# Altium schematic symbol library Item_sch.SchLib: 82 symbols
Pins are listed as number, name and electrical type; pins without a type are passive.

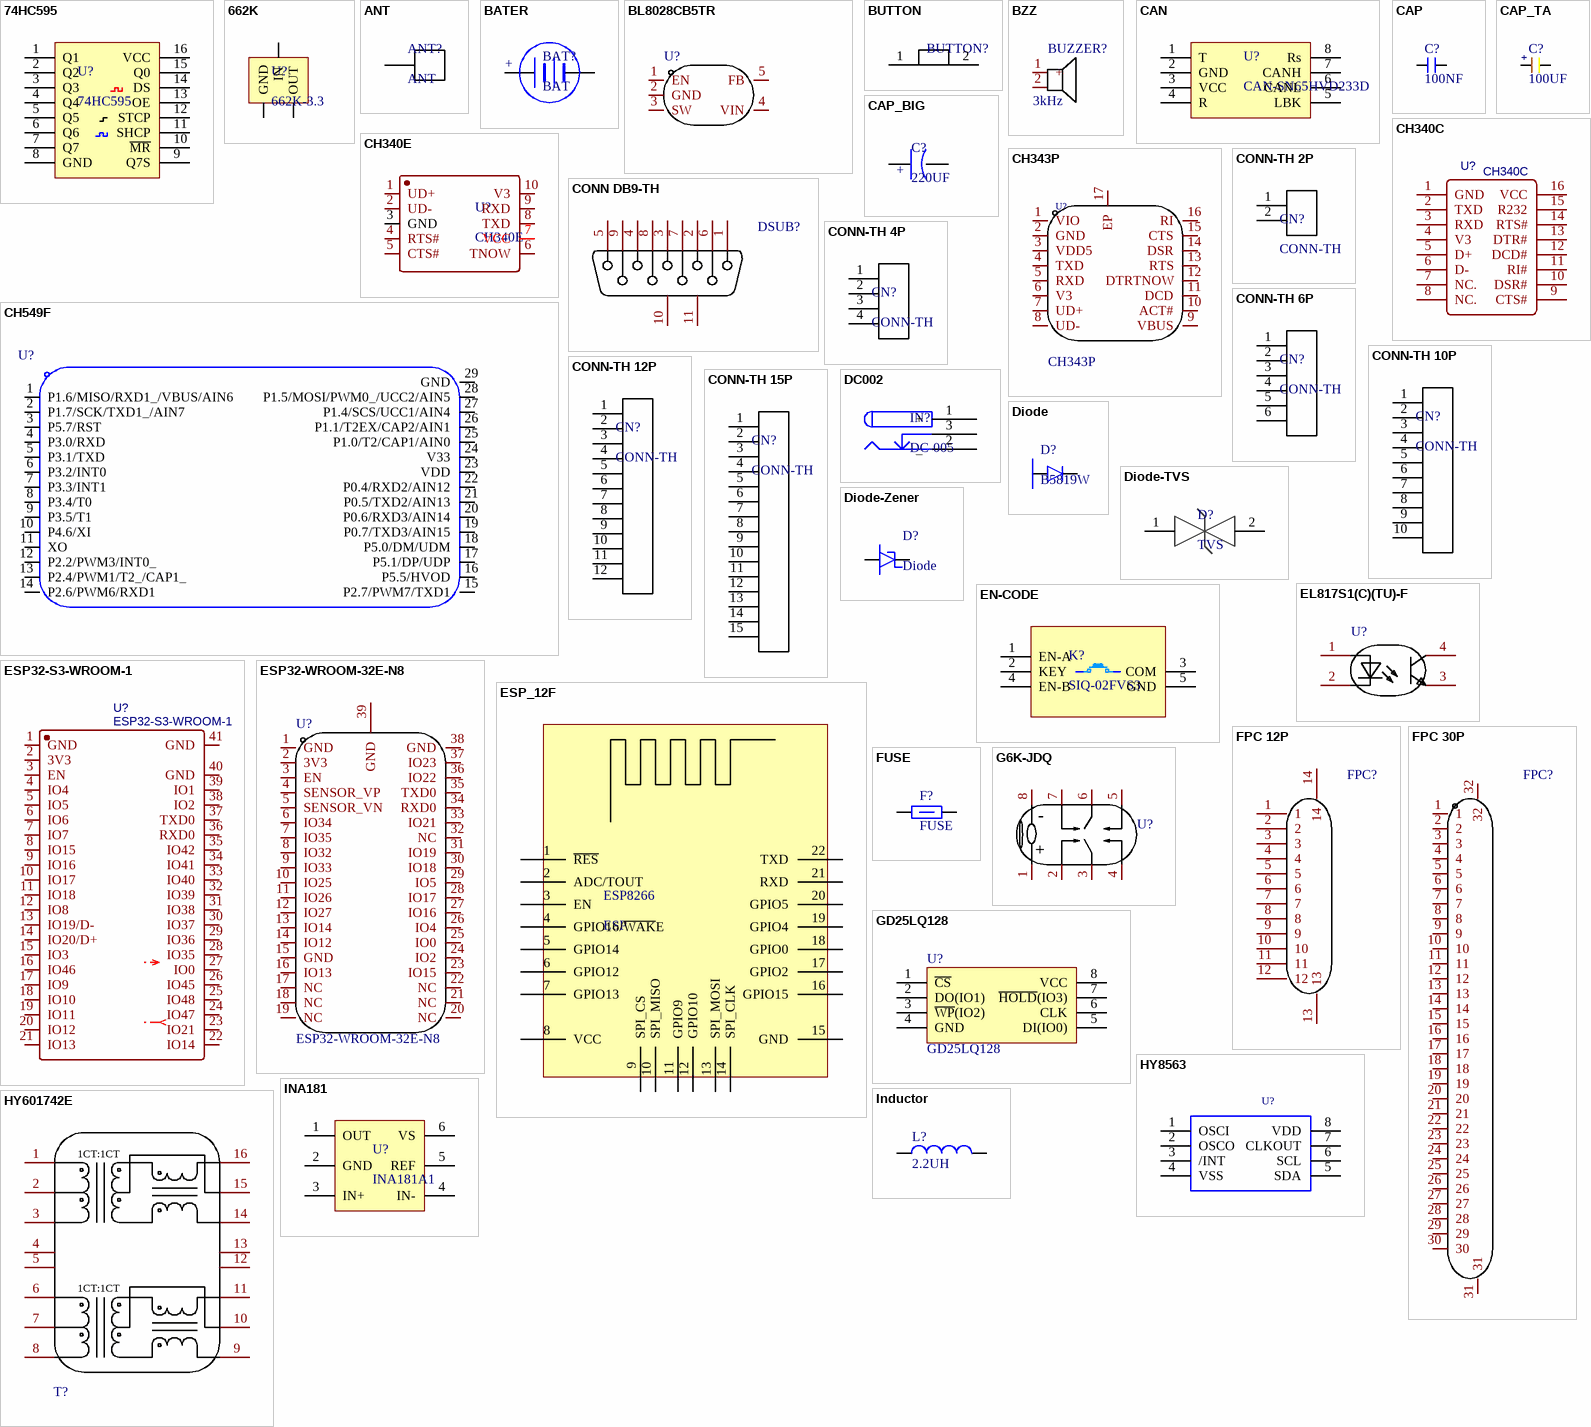
[diagram p0: symbols 74HC595 to Inductor]

## 74HC595
designator U?
IC
footprint SOIC_16
pins: 1 Q1, 2 Q2, 3 Q3, 4 Q4, 5 Q5, 6 Q6, 7 Q7, 8 GND, 9 Q7S, 10 ~{M}~{R}, 11 SHCP, 12 STCP, 13 OE, 14 DS, 15 Q0, 16 VCC

## 662K
designator U?, comment 662K-3.3
DC-DC
footprint SOT23_3
pins: 1 GND, 2 OUT, 3 IN

## ANT
designator ANT?
footprint ANT_MMCX (异型4.5X7.5MM)
pins: 1

## BATER
designator BAT?, comment BAT
footprint CR_1220
footprint BAT 18650*1
footprint CR_2032_DIP
pins: 1 +, 2 -

## BL8028CB5TR
designator U?
DC-DC 5.5V 1.5A; Manufacturer: BL(上海贝岭); Add into BOM: yes; Function: 降压型; Switch tube (built-in/external): 内置; Symbol: BL8028CB5TR; Device: BL8028CB5TR; LCSC Part Name: BL8028CB5TR; Supplier Part: C266177; Manufacturer Part: BL8028CB5TR; Supplier Footprint: SOT-23-5; JLCPCB Part Class: 扩展库; Datasheet: https://atta.szlcsc.com/upload/public/pdf/source/20210914/BE0444445A95A28A94BA1FA8E615D320.pdf; Supplier: LCSC; Convert to PCB: yes; Input Voltage: -; Output Current (Max): -; Switching Frequency: -; Synchronous Rectification: -; Number of Outputs: -; Topology: -
footprint SOT23_5
pins: 1 EN, 2 GND, 3 SW, 4 VIN, 5 FB

## BUTTON
designator BUTTON?  (value not drawn)
footprint KEY_SMD-4P (3*4*2.5MM)
footprint KEY-D (4*4mm)
footprint KEY-A
footprint KEY-B
footprint KEY2X12-SMD
footprint KEY-DIP4W
pins: 1, 2

## BZZ
designator BUZZER?  value 3kHz  (hidden comment: BZZ)
Manufacturer: 华能; Symbol: HNB09A05; Add into BOM: yes; Oscillator Circuit: 有源(内含驱动线路); Technology Type: 电磁式; Operating Voltage: 4V~8V; Sound Pressure Level (SPL): 85dB; Device: HNB09A05; LCSC Part Name: HNB09A05; Supplier Part: C96493; Manufacturer Part: HNB09A05; Supplier Footprint: 插件,D=9mm; JLCPCB Part Class: 扩展库; Datasheet: https://atta.szlcsc.com/upload/public/pdf/source/20170522/1495448327549.pdf; Supplier: LCSC; Convert to PCB: yes; Diameter (φD): 9mm; Height: 5.7mm
footprint BEE-FMQ5mm
footprint BEE-FMQ7.6mm
pins: 1 +, 2

## CAN
designator U?, comment CAN-SN65HVD233D
CAN
footprint SOIC_8 (58mm)
pins: 1 T, 2 GND, 3 VCC, 4 R, 5 LBK, 6 CANL, 7 CANH, 8 Rs

## CAP
designator C?, comment 100NF
CAP  12~50V
footprint CAP_0603
footprint CAP_0805
footprint CAP_1206
footprint CAP_0402
pins: 1 0, 2 0

## CAP_BIG
designator C?, comment 220UF
CAP 12V ~ 50V   电解电容
footprint CAPE_D (6.3X6.6X5.4)
footprint CAPE_B (4X4.3X5.4)
footprint CAPE_E (8X8.3X6.2)
footprint CAP_PR_2.5_8 (8X12)
footprint CAP_PR_2.5_6.3_RA (6.3X11)
pins: 1 0, 2 0
text: +

## CAP_TA
designator C?, comment 100UF
CAP  6~12V  钽电容
footprint CAP_3528_B
footprint CAP_6032_C
footprint CAP_3216_A
footprint CAP_2012_R
pins: 1 0, 2 0
text: +

## CH340C
designator U?
IC; BOM_Manufacturer: WCH; BOM_Paste Type: recommend; BOM_Supplier: LCSC; BOM_Manufacturer Part: CH340C; BOM_Supplier Part: C84681; spicePre: U; spiceSymbolName: CH340C
footprint SOIC_16
footprint SOP16 (SOP, 16-Leads, Body 9.90x3.90mm, Pitch 1.27mm, IPC Medium Density)
pins: 1 GND, 2 TXD, 3 RXD, 4 V3, 5 D+, 6 D-, 7 NC., 8 NC., 9 CTS#, 10 DSR#, 11 RI#, 12 DCD#, 13 DTR#, 14 RTS#, 15 R232, 16 VCC

## CH340E
designator U?
IC CH340E 10pin
footprint MSOP_10
pins: 1 UD+, 2 UD-, 3 GND, 4 RTS#, 5 CTS#, 6 TNOW, 7 VCC, 8 TXD, 9 RXD, 10 V3

## CH343P
designator U?
IC; Manufacturer: WCH(南京沁恒); Add into BOM: yes; Symbol: CH343P; Supplier: LCSC; Supplier Part: C2846043; Manufacturer Part: CH343P; JLCPCB Part Class: 扩展库; LCSC Part Name: CH343P; Supplier Footprint: QFN-16; Datasheet: 2021-07-07/108913S/1444e436f0ee4499a1b0f1a967f741b9/CH343DS1.PDF; Convert to PCB: yes; Type: -; Protocol: -; Number of Drivers/Receivers: -; Data Rate: -; Supply Voltage: -; Device: CH343P
footprint TQFN-16
pins: 1 VIO, 2 GND, 3 VDD5, 4 TXD, 5 RXD, 6 V3, 7 UD+, 8 UD-, 9 VBUS, 10 ACT#, 11 DCD, 12 DTRTNOW, 13 RTS, 14 DSR, 15 CTS, 16 RI, 17 EP

## CH549F
designator U?
MCU; Manufacturer: WCH(南京沁恒); Add into BOM: yes; CPU Core: 51系列; Maximum Frequency: 48MHz; Supply Voltage Range: 3.3V~5V; Internal Oscillator: 有; External Clock Frequency Rang: 6MHz~25MHz; Program FLASH Size: 64KB; RAM Size: 2.25KB; EEPROM/Data FLASH Size: 1KB; ADC (Units/Channels/bits): 1@x16ch/12bit; (E)PWM (Units/Channels/bits): 1@x8ch/8bit; 16Bit Timer Number: 3; U(S)ART Number: 4; (Q)SPI Number: 1; USB (H/D/OTG): 全速USB Host/Device; Peripherals / Functions / Protocol Stacks: 低电压检测；看门狗；CCP捕获/比较；触控按键；片载温度传感器；CRC校验；DMA; Symbol: CH549F; Device: CH549F; LCSC Part Name: CH549F; Supplier Part: C367229; Manufacturer Part: CH549F; Supplier Footprint: QFN-28; JLCPCB Part Class: Extended Part; Datasheet: https://atta.szlcsc.com/upload/public/pdf/source/20200819/C367229_D216FC0E0489DFB21C5778C34F7DC8A5.pdf; Supplier: LCSC; Convert to PCB: yes; GPIO Ports Number: -; DAC (Units/Channels/bits): -; 8Bit Timer Number: -; 32Bit Timer Number: -; CMP Number: -; I2C Number: -; I2S Number: -; CAN Number: -; Operating Temperature Range: -40~+70
footprint QFN28_4X4_L
pins: 1 P1.6/MISO/RXD1_/VBUS/AIN6, 2 P1.7/SCK/TXD1_/AIN7, 3 P5.7/RST, 4 P3.0/RXD, 5 P3.1/TXD, 6 P3.2/INT0, 7 P3.3/INT1, 8 P3.4/T0, 9 P3.5/T1, 10 P4.6/XI, 11 XO, 12 P2.2/PWM3/INT0_, 13 P2.4/PWM1/T2_/CAP1_, 14 P2.6/PWM6/RXD1, 15 P2.7/PWM7/TXD1, 16 P5.5/HVOD, 17 P5.1/DP/UDP, 18 P5.0/DM/UDM, 19 P0.7/TXD3/AIN15, 20 P0.6/RXD3/AIN14, 21 P0.5/TXD2/AIN13, 22 P0.4/RXD2/AIN12, 23 VDD, 24 V33, 25 P1.0/T2/CAP1/AIN0, 26 P1.1/T2EX/CAP2/AIN1, 27 P1.4/SCS/UCC1/AIN4, 28 P1.5/MOSI/PWM0_/UCC2/AIN5, 29 GND

## CONN DB9-TH
designator DSUB?, comment ID09S33E4GV00LF  (value not drawn)
Interface; Manufacturer: Amphenol; Add into BOM: yes; Connector Type: D-Sub; Current Rating (Max): 5A; Symbol: ID09S33E4GV00LF; Device: ID09S33E4GV00LF; Supplier: LCSC; Supplier Part: C185657; Manufacturer Part: ID09S33E4GV00LF; JLCPCB Part Class: 扩展库; LCSC Part Name: D-Sub P数:9P; Supplier Footprint: 弯插; Datasheet: https://atta.szlcsc.com/upload/public/pdf/source/20180524/C185657_A3EAFC28C6ED417B8B89632C5DE17622.pdf; Convert to PCB: yes; Gender: -; Number of Pins: 9P; Mounting Style: 弯插; Number of Rows: 2; Contact Plating: 金; Operating Temperature Range: -55℃~+125℃
footprint DB9/F
pins: 1, 2, 3, 4, 5, 6, 7, 8, 9, 10 MH1, 11 MH2

## CONN-TH 2P
designator CN?, comment CONN-TH
2PIN
footprint HDR2.0-LI-2P (直插，脚距：2.0mm)
footprint Header 2.54X2
footprint PH2.0-LI-2P (长：5.9mm，宽：4.7mm，高：6mm)
footprint XH2.54-WI-2P (接插件，2P)
pins: 1, 2

## CONN-TH 4P
designator CN?, comment CONN-TH
4PIN
footprint Header 2.54X4
footprint XH2.54-WI-4P (接插件，4P)
footprint XH2.54-WS-4P (长：15mm，宽：8mm，高：6.1mm)
footprint CONN XH2.54-4PIN (2.54MM)
pins: 1, 2, 3, 4

## CONN-TH 6P
designator CN?, comment CONN-TH
6PIN
footprint HDR2.0-LI-6P (直插，脚距：2.0mm)
footprint Header 2.54X6
footprint PH2.0-LI-6P (长：13.9mm，宽：4.7mm，高：6mm)
footprint XH2.54-WS-6P (长：20mm，宽：8mm，高：6.1mm)
footprint XH2.54-WI-6P (接插件，6P)
footprint JLINK_6P (2,00MM)
footprint XH_2.54_6P
footprint CONN TH_6P-P3.81 (P3.81mm)
pins: 1, 2, 3, 4, 5, 6

## CONN-TH 10P
designator CN?, comment CONN-TH
10PIN
footprint HDR2.0-LI-10P (直插，脚距：2.0mm)
footprint Header 2.54X10
footprint XH_2.54_10P
pins: 1, 2, 3, 4, 5, 6, 7, 8, 9, 10

## CONN-TH 12P
designator CN?, comment CONN-TH
12PIN
footprint PH2.0-LI-12P (长：23.9mm，宽：4.7mm，高：6mm)
footprint CONN TH_12P-P3.50_DB2ERC (3.50MM)
footprint CONN TH_12P-P2.50_A2001WV-12P
footprint FPC_0.5_12P
footprint FPC_0.5MM_12PIN_LT (0.5MM)
footprint FPC-12PIN-1MM-CN
pins: 1, 2, 3, 4, 5, 6, 7, 8, 9, 10, 11, 12

## CONN-TH 15P
designator CN?, comment CONN-TH
15PIN
footprint CONN SMD 15PIN (1.25MM)
pins: 1, 2, 3, 4, 5, 6, 7, 8, 9, 10, 11, 12, 13, 14, 15

## DC002
designator IN?, comment DC-005
Interface
footprint DC-005
pins: 1 +, 2 _, 3 _

## Diode
designator D?, comment B5819W
Diode_肖特基/二极管
footprint DIODE-SMB
footprint DIO SOD123
footprint DIO SOD323
footprint Diode_SMA (SMA)
footprint Diode_SMC (DO-214AB(2114))
pins: 1 P, 2 N

## Diode-TVS
designator D?, comment TVS
diode
footprint DIODE-SMB
footprint DIO SOD323
pins: 1, 2

## Diode-Zener
designator D?, comment Diode
Diode    /稳压
footprint DIODE-SMB
footprint DIODE_1206
footprint DIO SOD123
pins: 1 P, 2 N

## EL817S1(C)(TU)-F
designator U?  (value not drawn)
光耦; Manufacturer: EVERLIGHT(亿光); Add into BOM: yes; Input voltage type: DC; Output Type: 光电三极管; Forward Voltage: 1.2V; Output Current: 50mA; Isolation Voltage(rms): 5kV; Reverse Voltage: 6V; Receiving End Voltage: 35V; Number of Outputs: 1; Collector-Emitter Saturation Voltage (Vce(sat)@Ic,IF): 100mV@1mA,20mA; Rise time: 18us@2mA,100Ω; Symbol: EL817S1(C)(TU)-F; Device: EL817S1(C)(TU)-F; Supplier: LCSC; Manufacturer Part: EL817S1(C)(TU)-F; Supplier Part: C106900; JLCPCB Part Class: 基础库; LCSC Part Name: DC输入 隔离电压(rms):5000V; Supplier Footprint: SMD-4P; Datasheet: https://atta.szlcsc.com/upload/public/pdf/source/20181026/C323798_FBCE14484708FE0807B9A090D624C4F0.pdf; Convert to PCB: yes; Fall time: 18us@2mA,100Ω; Operating Temperature: -55℃~+110℃
footprint SOP4S
footprint SOP4 (AQY211G2S)
footprint EL-817
pins: 1 AN, 2 CAT, 3 EM, 4 COL

## EN-CODE
designator K?, comment SIQ-02FVS3
KEY
footprint Rotary Encoder
footprint EC-11
pins: 1 EN-A, 2 KEY, 3 COM, 4 EN-B, 5 GND

## ESP32-S3-WROOM-1
designator U?
IC; BOM_Manufacturer: Espressif Systems; BOM_Manufacturer Part: ESP32-SOLO-1; Contributor: LCSC; BOM_Supplier: LCSC; BOM_Supplier Part: C473005; BOM_JLCPCB Part Class: Extended Part; spicePre: U; spiceSymbolName: ESP32-S3-WROOM-1
footprint ESP32-S3-WROOM-1
pins: 1 GND, 2 3V3, 3 EN, 4 IO4, 5 IO5, 6 IO6, 7 IO7, 8 IO15, 9 IO16, 10 IO17, 11 IO18, 12 IO8, 13 IO19/D-, 14 IO20/D+, 15 IO3, 16 IO46, 17 IO9, 18 IO10, 19 IO11, 20 IO12, 21 IO13, 22 IO14, 23 IO21, 24 IO47, 25 IO48, 26 IO45, 27 IO0, 28 IO35, 29 IO36, 30 IO37, 31 IO38, 32 IO39, 33 IO40, 34 IO41, 35 IO42, 36 RXD0, 37 TXD0, 38 IO2, 39 IO1, 40 GND, 41 GND

## ESP32-WROOM-32E-N8
designator U?
IC; Manufacturer: ESPRESSIF(乐鑫); Symbol: ESP32-WROOM-32E(8MB); Add into BOM: yes; LCSC Part Name: 通用型Wi-Fi+BT+BLE的MCU模组 PCB板载天线模组; Supplier Part: C701342; Manufacturer Part: ESP32-WROOM-32E-N8; Supplier Footprint: SMD,18x25.5mm; JLCPCB Part Class: 扩展库; Datasheet: https://atta.szlcsc.com/upload/public/pdf/source/20200730/C701341_95E089979D39CD8D2471FDC7C7AF29A1.pdf; Supplier: LCSC; Convert to PCB: yes; Device: ESP32-WROOM-32E-N8
footprint ESP32-WROOM-32E (4MB)
footprint ESP32-WROVER-IB (18*31.4*3.3)
footprint ESP32-WROVER-IB - compatible (18*31.4*3.3)
pins: 1 GND, 2 3V3, 3 EN, 4 SENSOR_VP, 5 SENSOR_VN, 6 IO34, 7 IO35, 8 IO32, 9 IO33, 10 IO25, 11 IO26, 12 IO27, 13 IO14, 14 IO12, 15 GND, 16 IO13, 17 NC, 18 NC, 19 NC, 20 NC, 21 NC, 22 NC, 23 IO15, 24 IO2, 25 IO0, 26 IO4, 27 IO16, 28 IO17, 29 IO5, 30 IO18, 31 IO19, 32 NC, 33 IO21, 34 RXD0, 35 TXD0, 36 IO22, 37 IO23, 38 GND, 39 GND

## ESP_12F
designator ESP8266, comment ESP
IC
footprint ESP-12
pins: 1 ~{RES}, 2 ADC/TOUT, 3 EN, 4 GPIO16/~{WAK}E, 5 GPIO14, 6 GPIO12, 7 GPIO13, 8 VCC, 9 SPI_CS, 10 SPI_MISO, 11 GPIO9, 12 GPIO10, 13 SPI_MOSI, 14 SPI_CLK, 15 GND, 16 GPIO15, 17 GPIO2, 18 GPIO0, 19 GPIO4, 20 GPIO5, 21 RXD, 22 TXD

## FPC 12P
designator FPC?, comment AFA01-S12FCA-00  (value not drawn)
FPC 12Pin; Manufacturer: JS(钜硕电子); Add into BOM: yes; Locking Feature: 翻盖式; Number of Contacts: 12P; Pitch: 1mm; FFC, FCB Thickness: 0.3mm; Symbol: AFA01-S12FCA-00; Device: AFA01-S12FCA-00; Supplier: LCSC; Supplier Part: C262757; Manufacturer Part: AFA01-S12FCA-00; LCSC Part Name: 间距:1mm P数:12P 翻盖式 下接; Supplier Footprint: SMD,P=1mm,卧贴; Datasheet: https://atta.szlcsc.com/upload/public/pdf/source/20180820/C262762_EBECD0847A529CA64FD00527F6604CA9.pdf; Convert to PCB: yes; Contact Type: 下接; Mounting Type: 卧贴; Height Above Board: 2mm
footprint FPC_0.5MM_12PIN_LT (0.5MM)
footprint FPC-12PIN-1MM-CN
pins: 1, 2, 3, 4, 5, 6, 7, 8, 9, 10, 11, 12, 13, 14

## FPC 30P
designator FPC?, comment FPC-30PH20  (value not drawn)
FPC 30Pin; Manufacturer: XUNPU(讯普); Symbol: FPC-05F-30PH20; Add into BOM: yes; Locking Feature: 翻盖式; Number of Contacts: 30P; Pitch: 0.5mm; FFC, FCB Thickness: 0.3mm; Device: FPC-05F-30PH20; Supplier: LCSC; Supplier Part: C2856808; Manufacturer Part: FPC-05F-30PH20; LCSC Part Name: 间距:0.5mm P数:30P 翻盖式 下接; Supplier Footprint: SMD,P=0.5mm,卧贴; Datasheet: https://atta.szlcsc.com/upload/public/pdf/source/20210922/C2856808_4E6DDE2793CFD9EF09B771A8BD3338A4.pdf; Convert to PCB: yes; Contact Type: 下接; Mounting Type: 卧贴; Height Above Board: 2mm; Operating Temperature Range: -25℃~+85℃
footprint FPC-SMD_30P-P0.50
pins: 1, 2, 3, 4, 5, 6, 7, 8, 9, 10, 11, 12, 13, 14, 15, 16, 17, 18, 19, 20, 21, 22, 23, 24, 25, 26, 27, 28, 29, 30, 31, 32

## FUSE
designator F?
footprint FUSE_5X20
footprint FUSE_1206
footprint FUSE_1812
footprint Fuse_0805
footprint Fuse_0603
footprint FU 0805 (贴片保险丝)
pins: 1, 2

## G6K-JDQ
designator U?, comment G6K-2F-Y-5V_C2982926  (value not drawn)
JDQ 继电器; Manufacturer: OMRON(欧姆龙); Add into BOM: yes; Symbol: G6K-2F-Y-5V_C2982926; Device: G6K-2F-Y-5V_C2982926; Supplier: LCSC; Supplier Part: C2982926; Manufacturer Part: G6K-2F-Y-5V; JLCPCB Part Class: 扩展库; LCSC Part Name: G6K-2F-Y-5V; Supplier Footprint: SMD,6.5x10mm; Datasheet: https://atta.szlcsc.com/upload/public/pdf/source/20211014/7BF675B8400467E84F4521D7CBDF46F1.pdf; Convert to PCB: yes
footprint RELAY-SMD_G6K-2F-Y
pins: 1, 2, 3, 4, 5, 6, 7, 8
text: -; +

## GD25LQ128
designator U?
WSON-8
footprint WSON8
pins: 1 ~{CS}, 2 DO(IO1), 3 ~{WP}(IO2), 4 GND, 5 DI(IO0), 6 CLK, 7 ~{HOLD}(IO3), 8 VCC

## HY8563
designator U?  (value not drawn)
IC / RTC 时钟; Part_Number: C110202560001; Part_Name: RTC芯片; Manufacture: NXP; Part_Field_Name_1: PCB Footprint; Part_Field_Name_10: Part Field 10; Part_Field_Name_11: Part Field 11; PCB DECAL: PCF85063ATT-TSSOP8; ERP_Number: 1010100117; DSC1: RTC,I2C, VCC=1.0-5.5V; DSC2: SOIC-8_150mil，1.27mm Pitch; DSC3: -40℃~+85℃; Part_Field_Name_2: ERP Number; Part_Field_Name_3: Part Number; Part_Field_Name_4: Part Name; Part_Field_Name_5: DSC1; Part_Field_Name_6: DSC2; Part_Field_Name_7: DSC3; Part_Field_Name_8: Manufacture; Part_Field_Name_9: Price; Part_Field_Name_12: Part Field 12; Part_Field_Name_13: Part Field 13; Part_Field_Name_14: Part Field 14; Part_Field_Name_15: Part Field 15; Part_Field_Name_16: Part Field 16
footprint SOP-8PIN
footprint TSSOP_8 (0.65)
footprint SSOP_8PIN
pins: 1 OSCI, 2 OSCO, 3 /INT, 4 VSS, 5 SDA, 6 SCL, 7 CLKOUT, 8 VDD

## HY601742E
designator T?  (value not drawn)
Inductor; Manufacturer: HANRUN(汉仁); Add into BOM: yes; Number of Loop: 2; Turns Ratio: 1:1; Symbol: HY601742E; Device: HY601742E; LCSC Part Name: HY601742E; Supplier Part: C91752; Manufacturer Part: HY601742E; Supplier Footprint: SMD; Datasheet: https://atta.szlcsc.com/upload/public/pdf/source/20201124/C91752_171922D88CE3141E2445AF1D58250A51.pdf; Supplier: LCSC; Convert to PCB: yes
footprint XFMR-SMD_HY601745E
pins: 1, 2, 3, 4, 5, 6, 7, 8, 9, 10, 11, 12, 13, 14, 15, 16
text: 1CT:1CT

## INA181
designator U?, comment INA181A1
IC / INA181 电流放大器 / 20v/v / 200v/v
footprint SOT-23-6
pins: 1 OUT, 2 GND, 3 IN+, 4 IN-, 5 REF, 6 VS

## Inductor
designator L?, comment 2.2UH
Inductor; Code_IEC: 1005; Published: 8-Jun-2000; LatestRevisionDate: 29-May-2009; LatestRevisionNote: IPC-7351 Footprint Added.; PackageReference: 0402-A; Publisher: Altium Limited; PackageDescription: Chip Inductor; Code_JEITA: 0402
footprint Inductor_TC5026
footprint Inductor_CDRH127R
footprint Inductor_CDRH74R
footprint Inductor_1206
footprint Inductor_1210
footprint Inductor_0805
footprint Inductor_0603
footprint Inductance_nr
footprint INDUCTANCE_0630
pins: 1, 2

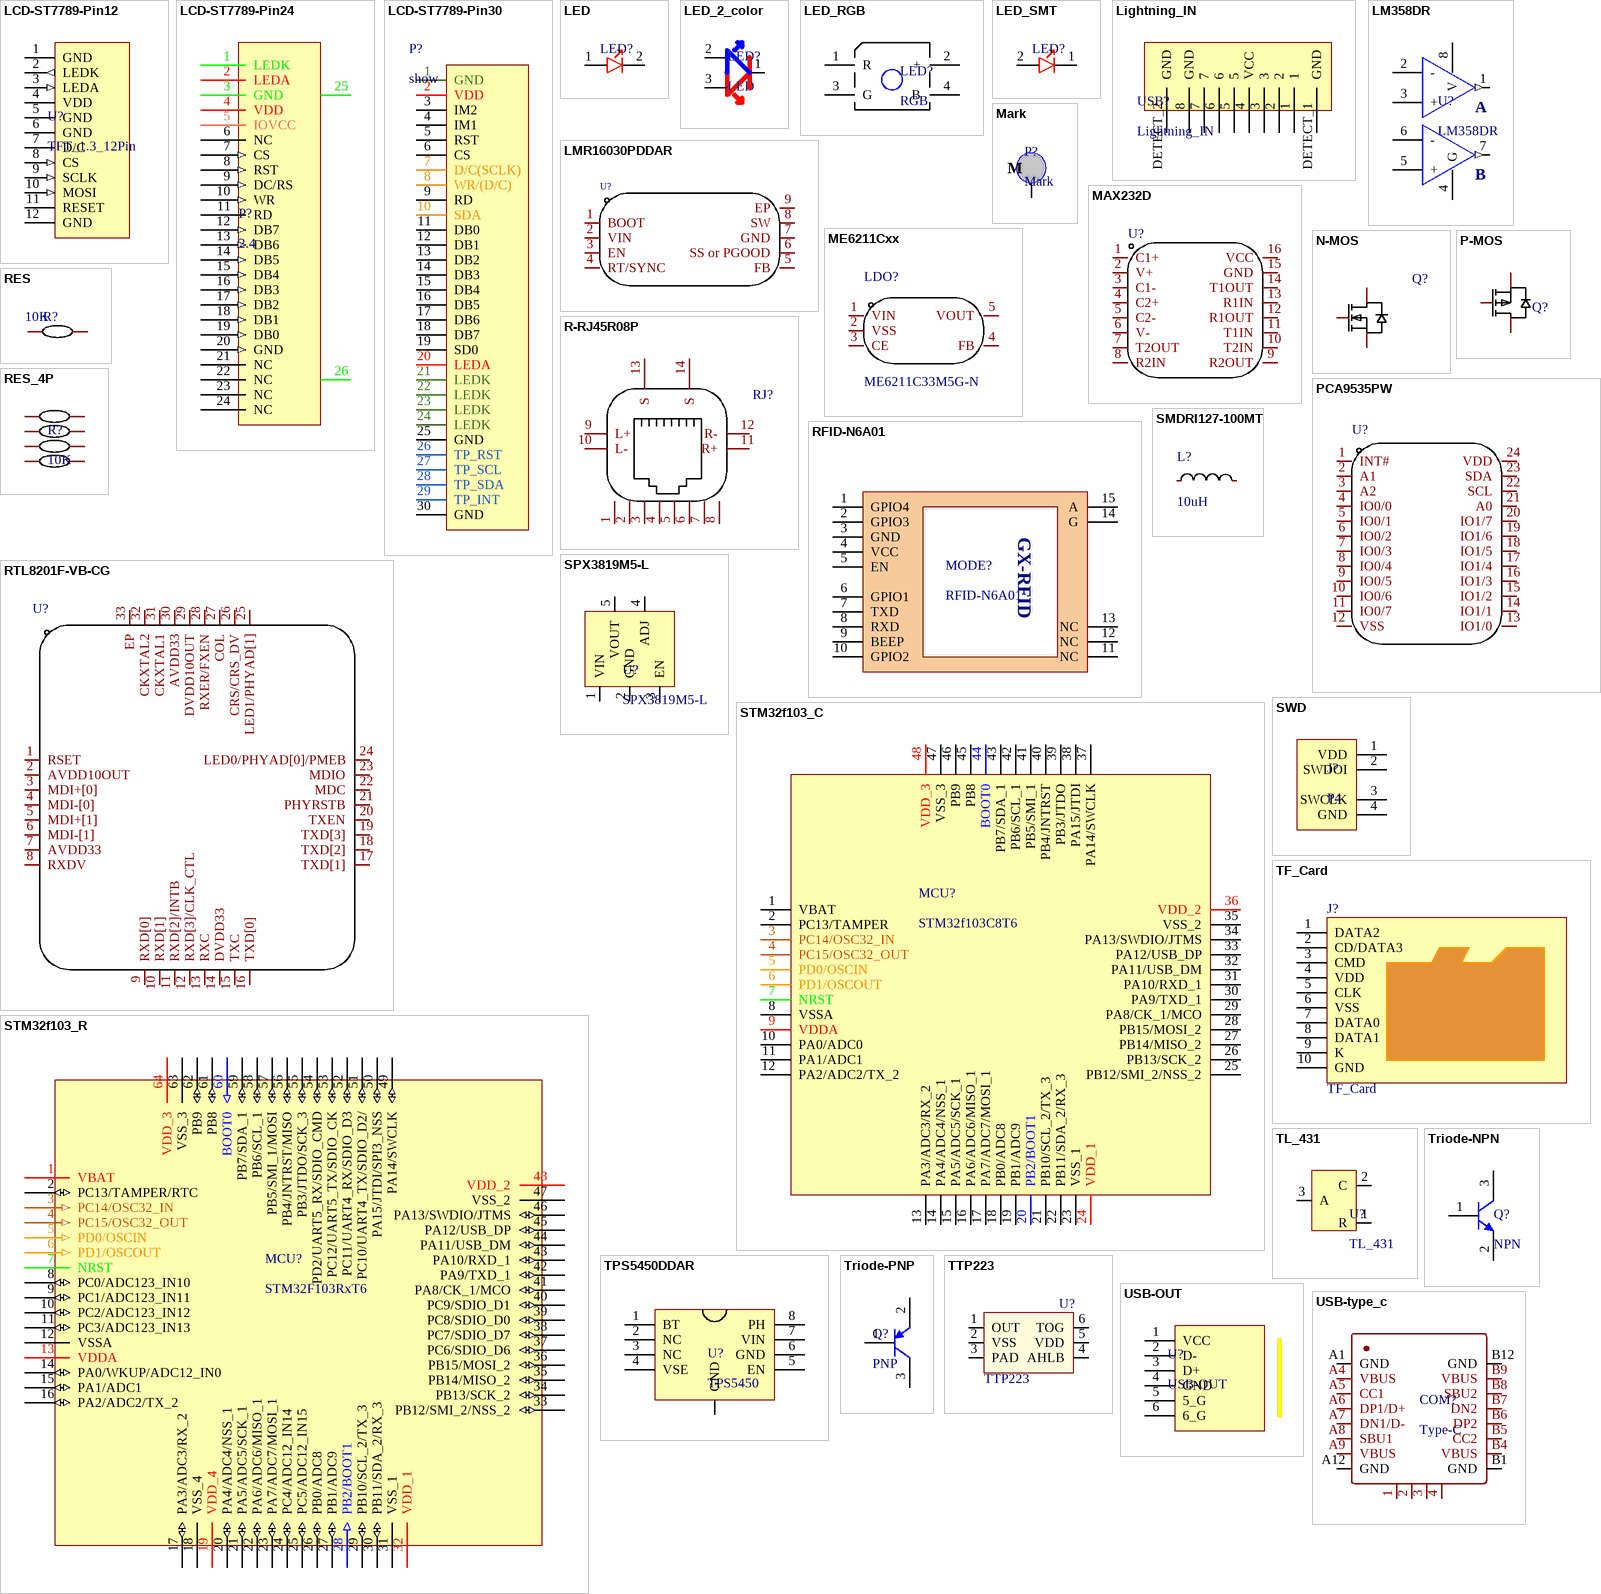
[diagram p1: symbols LCD-ST7789-Pin12 to USB-type_c]

## LCD-ST7789-Pin12
designator U?, comment TFT_1.3_12Pin
Show 1.3寸 焊接
footprint LCD_Show
footprint LCD_1.3B
pins: 1 GND, 2 LEDK (out), 3 LEDA (in), 4 VDD, 5 GND, 6 GND, 7 D/C, 8 CS (in), 9 SCLK (in), 10 MOSI (in), 11 RESET, 12 GND

## LCD-ST7789-Pin24
designator P?, comment 2.4
Show 2.4寸
footprint FPC-24Pin
pins: 1 LEDK, 2 LEDA (power), 3 GND, 4 VDD, 5 IOVCC, 6 NC, 7 CS (in), 8 RST (in), 9 DC/RS (in), 10 WR (in), 11 RD, 12 DB7 (in), 13 DB6 (in), 14 DB5 (in), 15 DB4 (in), 16 DB3 (in), 17 DB2 (in), 18 DB1 (in), 19 DB0 (in), 20 GND (in), 21 NC, 22 NC, 23 NC, 24 NC, 25 GND, 26 GND

## LCD-ST7789-Pin30
designator P?, comment show
Show 1.9寸
footprint FPC_0.5_30P
footprint FPC_0.5MM_30PIN_LT (0.5mm)
pins: 1 GND, 2 VDD (power), 3 IM2, 4 IM1, 5 RST, 6 CS, 7 D/C(SCLK), 8 WR/(D/C), 9 RD, 10 SDA, 11 DB0, 12 DB1, 13 DB2, 14 DB3, 15 DB4, 16 DB5, 17 DB6, 18 DB7, 19 SD0, 20 LEDA, 21 LEDK, 22 LEDK, 23 LEDK, 24 LEDK, 25 GND, 26 TP_RST, 27 TP_SCL, 28 TP_SDA, 29 TP_INT, 30 GND

## LED
designator LED?, comment LED_R/G/B/Y  (value not drawn)
LED
footprint LED_5MM
footprint LED_5MM_RA
footprint LED_3MM
pins: 1 +, 2 -

## LED_2_color
designator LED?, comment LED
LED,共阴
footprint LED_3MM_3PIN
pins: 1 +, 2 -, 3

## LED_RGB
designator LED?, comment RGB
LED
footprint RGB_3528
pins: 1 R, 2 +, 3 G, 4 B

## LED_SMT
designator LED?, comment LED_R/G/B/Y  (value not drawn)
LED
footprint C0806
footprint LED_0603_R
footprint LED_0805_R
footprint LED_0603_B
pins: 1 -, 2 +

## Lightning_IN
designator USB?
USB
footprint Lightning
pins: 1, 2, 3, 4 VCC, 5, 6, 7, 8 GND, DETECT_1 GND, DETECT_2 GND

## LM358DR
designator U?
IC    双路放大器
footprint SOIC_8 (58mm)
pins: 1 (out), 2 -, 3 +, 4 G, 5 +, 6 -, 7 (out), 8 V
text: A; B

## LMR16030PDDAR
designator U?  (value not drawn)
DC-DC 3A; Manufacturer: TI(德州仪器); Add into BOM: yes; Function: 降压型; Synchronous Rectification: 否; Output Type: 可调; Number of Outputs: 1; Topology: 降压式; Input Voltage: 4.3V~60V; Output Voltage: 800mV~50V; Switching Frequency: 2.5MHz; Symbol: LMR16030PDDAR; Device: LMR16030PDDAR; Supplier: LCSC; Manufacturer Part: LMR16030PDDAR; Supplier Part: C90665; JLCPCB Part Class: 扩展库; LCSC Part Name: LMR16030PDDAR; Supplier Footprint: SOP-8-EP; Datasheet: https://www.ti.com/cn/lit/gpn/lmr16030; Convert to PCB: yes; Output Current (Max): 3A; Operating Temperature: -40℃~+125℃@(TJ)
footprint SOIC-8_L4.9-W3.9-H1.7
pins: 1 BOOT, 2 VIN, 3 EN, 4 RT/SYNC, 5 FB, 6 SS or PGOOD, 7 GND, 8 SW, 9 EP

## Mark
designator P?
footprint Mark
pins: 1
text: M

## MAX232D
designator U?  (value not drawn)
IC; Manufacturer: TI(德州仪器); Add into BOM: yes; Types: 收发器; Driver/receiver: 2/2; Data Rate: 120Kbps; Supply Voltage: 4.5V~5.5V; Symbol: MAX232D; Device: MAX232D; LCSC Part Name: MAX232D; Supplier Part: C350552; Manufacturer Part: MAX232D; Supplier Footprint: SOIC-16; JLCPCB Part Class: 扩展库; Datasheet: https://www.ti.com/cn/lit/gpn/max232; Supplier: LCSC; Convert to PCB: yes; Operating Temperature: 0℃~+70℃
footprint SOP-16PIN
pins: 1 C1+, 2 V+, 3 C1-, 4 C2+, 5 C2-, 6 V-, 7 T2OUT, 8 R2IN, 9 R2OUT, 10 T2IN, 11 T1IN, 12 R1OUT, 13 R1IN, 14 T1OUT, 15 GND, 16 VCC

## ME6211Cxx
designator LDO?, comment Device: ME6211C33M5G-N  (hidden comment: ME6211C)
DC-DC LDO; Manufacturer: MICRONE(南京微盟); Add into BOM: yes; Output Type: 固定; Output Polarity: 正; Number of Outputs: 1; Maximum Input Voltage: 6V; Output Voltage: 3.3V; Dropout Voltage: 260mV@(200mA); Output Current: 500mA; Power Supply Rejection Ratio (PSRR): 70dB; Symbol: ME6211C33M5G-N; LCSC Part Name: ME6211C33M5G-N; Supplier Part: C82942; Manufacturer Part: ME6211C33M5G-N; Supplier Footprint: SOT-23-5; JLCPCB Part Class: 扩展库; Datasheet: https://atta.szlcsc.com/upload/public/pdf/source/20170918/C82942_1505727073070976520.pdf; Supplier: LCSC; Convert to PCB: yes
footprint SOT23_5
pins: 1 VIN, 2 VSS, 3 CE, 4 FB, 5 VOUT

## N-MOS
designator Q?  (value not drawn)
MOSFET; Manufacturer: AOS; Symbol: AO3400A; Device: AO3400A_C20917; Add into BOM: yes; Type: N沟道; Drain Source Voltage (Vdss): 30V; Continuous Drain Current (Id): 5.7A; Power Dissipation (Pd): 1.4W; Drain Source On Resistance (RDS(on)@Vgs,Id): 26.5mΩ@10V,5.7A; Gate Threshold Voltage (Vgs(th)@Id): 1.5V@250uA; Total Gate Charge (Qg@Vgs): 7nC@4.5V; Input Capacitance (Ciss@Vds): 630pF@15V; LCSC Part Name: N沟道 耐压:30V 电流:5.7A; Supplier Part: C20917; Manufacturer Part: AO3400A; Supplier Footprint: SOT-23-3L; Datasheet: https://atta.szlcsc.com/upload/public/pdf/source/20140107/1457706668533.pdf; Supplier: LCSC; Convert to PCB: yes; Operating Temperature: -55℃~+150℃@(Tj)
footprint SOT23_3
footprint TO252_2
footprint SO8FL
pins: 1 G, 2 S, 3 D

## P-MOS
designator Q?  (value not drawn)
MOSFET; Manufacturer: NCE(无锡新洁能); Symbol: NCE60P12K; Add into BOM: yes; Type: P沟道; Drain Source Voltage (Vdss): 60V; Continuous Drain Current (Id): 12A; Power Dissipation (Pd): 60W; Drain Source On Resistance (RDS(on)@Vgs,Id): 100mΩ@10V,12A; Gate Threshold Voltage (Vgs(th)@Id): 2.2V@250uA; Device: NCE60P12K; LCSC Part Name: P沟道 耐压:60V 电流:12A; Supplier Part: C326372; Manufacturer Part: NCE60P12K; Supplier Footprint: TO-252-2; Datasheet: https://atta.szlcsc.com/upload/public/pdf/source/20181123/C326372_005D08B423A0903E39B8B4494761173B.pdf; Supplier: LCSC; Convert to PCB: yes
footprint SOT23_3
footprint TO252_2
pins: 1 G, 2 S, 3 D

## PCA9535PW
designator U?
IC; Manufacturer: NXP(恩智浦); Add into BOM: yes; Interface: I2C；SMBus; Number of I/O: 16; Interrupt Output: 有中断输出; Output Type: 推挽式; Supply Voltage: 2.3V~5.5V; Output Source current: 10mA; Output Sink Current: 25mA; Clock Frequency: 400kHz; Symbol: PCA9535PW; Device: PCA9535PW; LCSC Part Name: PCA9535PW; Supplier Part: C129517; Manufacturer Part: PCA9535PW; Supplier Footprint: TSSOP-24; JLCPCB Part Class: 扩展库; Datasheet: https://atta.szlcsc.com/upload/public/pdf/source/20170914/C129517_1505360064978968280.pdf; Supplier: LCSC; Convert to PCB: yes; Operating Temperature: -40℃~+85℃
footprint TSSOP_24 (0.65)
pins: 1 INT#, 2 A1, 3 A2, 4 IO0/0, 5 IO0/1, 6 IO0/2, 7 IO0/3, 8 IO0/4, 9 IO0/5, 10 IO0/6, 11 IO0/7, 12 VSS, 13 IO1/0, 14 IO1/1, 15 IO1/2, 16 IO1/3, 17 IO1/4, 18 IO1/5, 19 IO1/6, 20 IO1/7, 21 A0, 22 SCL, 23 SDA, 24 VDD

## R-RJ45R08P
designator RJ?, comment R-RJ45R08P-C000  (value not drawn)
Manufacturer: Ckmtw(灿科盟); Add into BOM: yes; Connector Type: RJ插座; USOC Codes: RJ45; Number of Ports: 1; Shielding: 有; LED: 带LED; Symbol: R-RJ45R08P-C000; Device: R-RJ45R08P-C000; LCSC Part Name: RJ45 弯插 带LED 8P/8C 铜壳带屏蔽 短体  无弹片; Supplier Part: C386757; Manufacturer Part: R-RJ45R08P-C000; Supplier Footprint: 插件; JLCPCB Part Class: 扩展库; Datasheet: https://atta.szlcsc.com/upload/public/pdf/source/20190508/C386757_590BCC8A33AAEEF7838490D656B2E4CF.pdf; Supplier: LCSC; Convert to PCB: yes; Ratings: -; Mounting Style: 弯插; Operating Temperature Range: 0℃~+70℃
footprint RJ45-R08P
footprint RJ45_RH11105A
footprint RJ45_CB
pins: 1, 2, 3, 4, 5, 6, 7, 8, 9 L+, 10 L-, 11 R+, 12 R-, 13 S, 14 S

## RES
designator R?, comment 10K
Symbol: 电阻; Device: Res_0603; Convert to PCB: yes; Add into BOM: yes; Supplier Footprint: 0603
footprint RESC_0402
footprint RESC_0603_1
footprint RESC_1206
footprint RESC_0805
footprint RES_0.4_1/4W
pins: 1, 2

## RES_4P
designator R?, comment 10K
4P
footprint RESC_0603_4
pins: 1, 2, 3, 4, 5, 6, 7, 8

## RFID-N6A01
designator MODE?
MODE
footprint RFID-GX-6A01
pins: 1 GPIO4, 2 GPIO3, 3 GND, 4 VCC, 5 EN, 6 GPIO1, 7 TXD, 8 RXD, 9 BEEP, 10 GPIO2, 11 NC, 12 NC, 13 NC, 14 G, 15 A
text: GX-RFID

## RTL8201F-VB-CG
designator U?  (value not drawn)
IC; Manufacturer: REALTEK(瑞昱); Add into BOM: yes; Application Function: 物理层收发器; Interface: MII, SNI, SMI; Supply Voltage: 2.97V~3.63V; Symbol: RTL8201F-VB-CG; Device: RTL8201F-VB-CG; LCSC Part Name: RTL8201F-VB-CG; Supplier Part: C45044; Manufacturer Part: RTL8201F-VB-CG; Supplier Footprint: QFN-32-EP(5x5); JLCPCB Part Class: 扩展库; Datasheet: https://atta.szlcsc.com/upload/public/pdf/source/20230111/0A7B8DFCF34CFC72D8D907AFD3A59BDF.pdf; Supplier: LCSC; Convert to PCB: yes; Number of Channels: -
footprint QFN32 5x5_M (32脚，长x宽x高：5x5x0.95mm，脚距：0.5mm)
pins: 1 RSET, 2 AVDD10OUT, 3 MDI+[0], 4 MDI-[0], 5 MDI+[1], 6 MDI-[1], 7 AVDD33, 8 RXDV, 9 RXD[0], 10 RXD[1], 11 RXD[2]/INTB, 12 RXD[3]/CLK_CTL, 13 RXC, 14 DVDD33, 15 TXC, 16 TXD[0], 17 TXD[1], 18 TXD[2], 19 TXD[3], 20 TXEN, 21 PHYRSTB, 22 MDC, 23 MDIO, 24 LED0/PHYAD[0]/PMEB, 25 LED1/PHYAD[1], 26 CRS/CRS_DV, 27 COL, 28 RXER/FXEN, 29 DVDD10OUT, 30 AVDD33, 31 CKXTAL1, 32 CKXTAL2, 33 EP

## SMDRI127-100MT
designator L?  value 10uH  (hidden comment: SMDRI127-100MT)
Manufacturer: SXN(顺翔诺); Add into BOM: yes; Tolerance: ±20%; Saturation Current (Isat): 9A; DC Resistance (DCR): 21mΩ; Type: 屏蔽电感; Symbol: SMDRI127-100MT; Device: SMDRI127-100MT; Supplier: LCSC; Manufacturer Part: SMDRI127-100MT; Supplier Part: C9904; JLCPCB Part Class: 扩展库; LCSC Part Name: 10uH ±20% 9A; Supplier Footprint: SMD; Datasheet: https://atta.szlcsc.com/upload/public/pdf/source/20210810/6F96FDC19AA308DD2AD166FFB9640E87.pdf; Convert to PCB: yes; Rated Current: -
footprint IND-SMD_L12.3-W12.3_SMDRI127
pins: 1, 2

## SPX3819M5-L
designator U?
DC-DC   3.3V  500ma
footprint SOT23_5
pins: 1 VIN, 2 GND, 3 EN, 4 ADJ, 5 VOUT

## STM32f103_C
designator MCU?, comment STM32f103C8T6
MCU
footprint LQFP_48_7X7
pins: 1 VBAT, 2 PC13/TAMPER, 3 PC14/OSC32_IN, 4 PC15/OSC32_OUT, 5 PD0/OSCIN, 6 PD1/OSCOUT, 7 NRST, 8 VSSA, 9 VDDA, 10 PA0/ADC0, 11 PA1/ADC1, 12 PA2/ADC2/TX_2, 13 PA3/ADC3/RX_2, 14 PA4/ADC4/NSS_1, 15 PA5/ADC5/SCK_1, 16 PA6/ADC6/MISO_1, 17 PA7/ADC7/MOSI_1, 18 PB0/ADC8, 19 PB1/ADC9, 20 PB2/BOOT1, 21 PB10/SCL_2/TX_3, 22 PB11/SDA_2/RX_3, 23 VSS_1, 24 VDD_1, 25 PB12/SMI_2/NSS_2, 26 PB13/SCK_2, 27 PB14/MISO_2, 28 PB15/MOSI_2, 29 PA8/CK_1/MCO, 30 PA9/TXD_1, 31 PA10/RXD_1, 32 PA11/USB_DM, 33 PA12/USB_DP, 34 PA13/SWDIO/JTMS, 35 VSS_2, 36 VDD_2, 37 PA14/SWCLK, 38 PA15/JTDI, 39 PB3/JTDO, 40 PB4/JNTRST, 41 PB5/SMI_1, 42 PB6/SCL_1, 43 PB7/SDA_1, 44 BOOT0, 45 PB8, 46 PB9, 47 VSS_3, 48 VDD_3

## STM32f103_R
designator MCU?, comment STM32F103RxT6
MCU
footprint LQFP_64_10X10
pins: 1 VBAT (power), 2 PC13/TAMPER/RTC (io), 3 PC14/OSC32_IN (in), 4 PC15/OSC32_OUT (in), 5 PD0/OSCIN (in), 6 PD1/OSCOUT (in), 7 NRST, 8 PC0/ADC123_IN10 (io), 9 PC1/ADC123_IN11 (io), 10 PC2/ADC123_IN12 (io), 11 PC3/ADC123_IN13 (io), 12 VSSA (power), 13 VDDA (power), 14 PA0/WKUP/ADC12_IN0 (io), 15 PA1/ADC1 (io), 16 PA2/ADC2/TX_2 (io), 17 PA3/ADC3/RX_2 (io), 18 VSS_4 (power), 19 VDD_4 (power), 20 PA4/ADC4/NSS_1 (io), 21 PA5/ADC5/SCK_1 (io), 22 PA6/ADC6/MISO_1 (io), 23 PA7/ADC7/MOSI_1 (io), 24 PC4/ADC12_IN14 (io), 25 PC5/ADC12_IN15 (io), 26 PB0/ADC8 (io), 27 PB1/ADC9 (io), 28 PB2/BOOT1 (in), 29 PB10/SCL_2/TX_3 (io), 30 PB11/SDA_2/RX_3 (io), 31 VSS_1 (power), 32 VDD_1 (power), 33 PB12/SMI_2/NSS_2 (io), 34 PB13/SCK_2 (io), 35 PB14/MISO_2 (io), 36 PB15/MOSI_2 (io), 37 PC6/SDIO_D6 (io), 38 PC7/SDIO_D7 (io), 39 PC8/SDIO_D0 (io), 40 PC9/SDIO_D1 (io), 41 PA8/CK_1/MCO (io), 42 PA9/TXD_1 (io), 43 PA10/RXD_1 (io), 44 PA11/USB_DM (io), 45 PA12/USB_DP (io), 46 PA13/SWDIO/JTMS (io), 47 VSS_2 (power), 48 VDD_2 (power), 49 PA14/SWCLK (io), 50 PA15/JTDI/SPI3_NSS (io), 51 PC10/UART4_TX/SDIO_D2/ (io), 52 PC11/UART4_RX/SDIO_D3 (io), 53 PC12/UART5_TX/SDIO_CK (io), 54 PD2/UART5_RX/SDIO_CMD (io), 55 PB3/JTDO/SCK_3 (io), 56 PB4/JNTRST/MISO (io), 57 PB5/SMI_1/MOSI (io), 58 PB6/SCL_1 (io), 59 PB7/SDA_1 (io), 60 BOOT0 (in), 61 PB8 (io), 62 PB9 (io), 63 VSS_3 (power), 64 VDD_3 (power)

## SWD
designator J?, comment P4
Header
footprint XH2.54-WS-4P (长：15mm，宽：8mm，高：6.1mm)
footprint XH2.54-WI-4P (接插件，4P)
pins: 1 VDD, 2 SWDOI, 3 SWCLK, 4 GND

## TF_Card
designator J?
TF卡座
footprint SD_MINI
footprint TF_short
pins: 1 DATA2, 2 CD/DATA3, 3 CMD, 4 VDD, 5 CLK, 6 VSS, 7 DATA0, 8 DATA1, 9 K, 10 GND

## TL_431
designator U?
DC-DC    基准源
footprint SOT23_3
pins: 1 R, 2 C, 3 A

## TPS5450DDAR
designator U?, comment TPS5450
DC-DC
footprint SOIC-8_L4.9-W3.9-H1.7
pins: 1 BT, 2 NC, 3 NC, 4 VSE, 5 EN, 6 GND, 7 VIN, 8 PH, 9 GND

## Triode-NPN
designator Q?, comment NPN
footprint SOT23_3
pins: 1 B, 2 E, 3 C

## Triode-PNP
designator Q?, comment PNP
footprint SOT23_3
pins: 1 B, 2 E, 3 C

## TTP223
designator U?
IC / TOUCH
footprint SOT-23-6
pins: 1 OUT, 2 VSS, 3 PAD, 4 AHLB, 5 VDD, 6 TOG

## USB-OUT
designator U?
USB
footprint USB_BA
footprint USB_Bout
footprint USB_OUT-B
footprint USB_OUT-C
footprint USB_OUT-C*2
footprint USB-A/F-S
footprint USB-A/F-2O
pins: 1 VCC, 2 D-, 3 D+, 4 GND, 5 5_G, 6 6_G

## USB-type_c
designator COM?, comment Type-C
USB
footprint USB-Type-C_16A
footprint USB-tYPE_C_C
pins: 1, 2, 3, 4, A1 GND, A4 VBUS, A5 CC1, A6 DP1/D+, A7 DN1/D-, A8 SBU1, A9 VBUS, A12 GND, B1 GND, B4 VBUS, B5 CC2, B6 DP2, B7 DN2, B8 SBU2, B9 VBUS, B12 GND

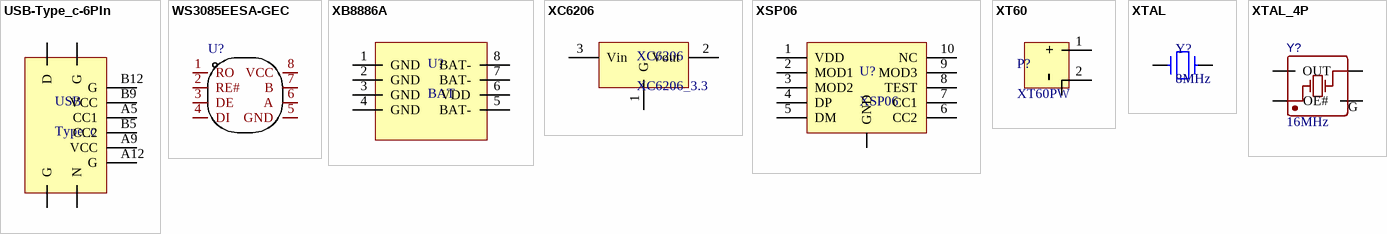
[diagram p2: symbols USB-Type_c-6PIn to XTAL_4P]

## USB-Type_c-6PIn
designator USB, comment Type_c
USB
footprint USB-Type-c_6P
pins: A G, A5 CC1, A9 VCC, A12 G, B N, B5 CC2, B9 VCC, B12 G, C D, D G

## WS3085EESA-GEC
designator U?, comment RS485  (value not drawn)
IC / RS485; Manufacturer: 南京国博; Symbol: WS3085; Device: WS3085EESA-GEC; Add into BOM: yes; Types: 收发器; Supply Voltage: 5V; Data Rate: 500Kbps; Driver/receiver: 1/1; Node Number: 256; ESD Protect: ±15kV; Whether the isolation: 否; LCSC Part Name: RS485/RS422接口芯片; Supplier Part: C2691412; Manufacturer Part: WS3085EESA-GEC; Supplier Footprint: SOP-8; JLCPCB Part Class: 扩展库; Datasheet: https://atta.szlcsc.com/upload/public/pdf/source/20210205/C2691412_C41A64A8D345E9433942813AE5DF17C4.pdf; Supplier: LCSC; Convert to PCB: yes; Operating Temperature: -40℃~+125℃
footprint SOP-8PIN
pins: 1 RO, 2 RE#, 3 DE, 4 DI, 5 GND, 6 A, 7 B, 8 VCC

## XB8886A
designator U?, comment BAT
footprint SOP_8
pins: 1 GND, 2 GND, 3 GND, 4 GND, 5 BAT-, 6 VDD, 7 BAT-, 8 BAT-

## XC6206
designator XC6206, comment XC6206_3.3
DC-DC
footprint SOT23_3
pins: 1 G, 2 Vout, 3 Vin

## XSP06
designator U?
DC-DC 诱骗
footprint ESSOP_10
pins: 1 VDD, 2 MOD1, 3 MOD2, 4 DP, 5 DM, 6 CC2, 7 CC1, 8 TEST, 9 MOD3, 10 NC, 11 GND

## XT60
designator P?, comment XT60PW
Interface
footprint XT-60
footprint XT60-PW-M20 (长：18.8mm， 宽：16mm，高：8.6mm)
footprint XT-60PW-F20
pins: 0 -, 1 +, 2 -

## XTAL
designator Y?, comment 8MHz
CRYSTAL
footprint XTAL-32
footprint XTAL_SMD_3215
footprint XTAL_3225
footprint XTAL_SMD_49S
footprint XTAL_49S
footprint XTAL-SMD5032-2P
pins: 1, 2

## XTAL_4P
designator Y?, comment 16MHz
Crystal Oscillator; Value: 16MHz
footprint XTAL_SMD_3225
footprint XTAL_SMD_5032
footprint XTAL_SMD_7050
pins: 1 OE#, 2 Gnd, 3 OUT, 4 GND
text: G